# EAGLE library part 1-480459-0 (library dec-con)
Mate-N-Lok 1-480459-0, board mounted.
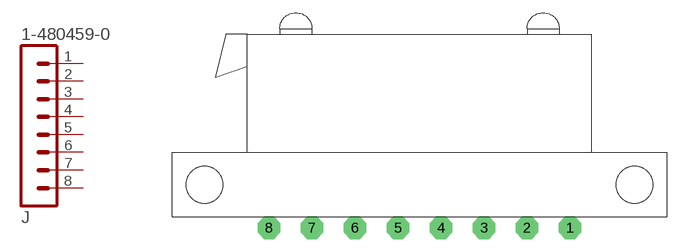
[diagram p72: symbol with the pads of 1-480459-0; footprint 1-480459-0]

Designator prefix J

## 1-480459-0  [1-480459-0]
1  1  pas
2  2  pas
3  3  pas
4  4  pas
5  5  pas
6  6  pas
7  7  pas
8  8  pas

## Footprint 1-480459-0 (pad centres in mm)
Mate-N-Lok 1-480459-0, board mounted.
drill 1.778 octagon: 1 46.99,-1.27; 2 41.91,-1.27; 3 36.83,-1.27; 4 31.75,-1.27; 5 26.67,-1.27; 6 21.59,-1.27; 7 16.51,-1.27; 8 11.43,-1.27
hole 4.318 at 3.81,3.81
hole 4.318 at 54.61,3.81